# EAGLE library part HY57V641620HG (library axis)
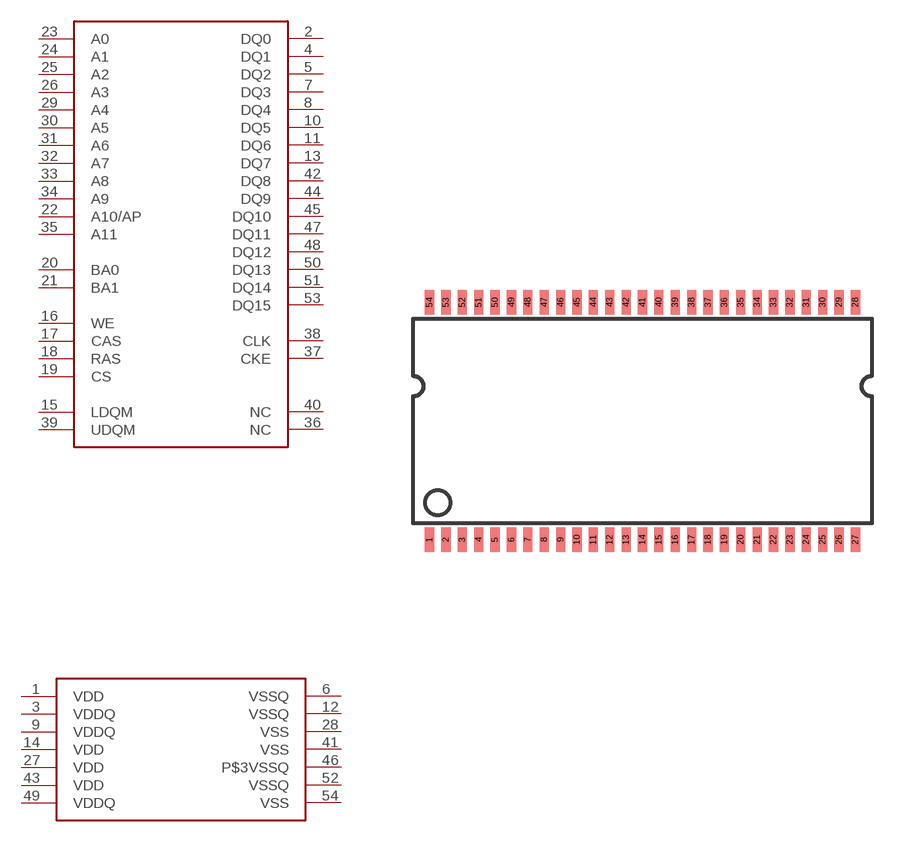
[diagram p3: symbol with the pads of TSOP54; footprint TSOP54]

Designator prefix -; gates G$1=HY57V641620HG G$2=HY57V641620HG_PWR

## HY57V641620HG  [TSOP54]
1  G$2:VDD
2  G$1:DQ0
3  G$2:VDDQ
4  G$1:DQ1
5  G$1:DQ2
6  G$2:VSSQ
7  G$1:DQ3
8  G$1:DQ4
9  G$2:VDDQ
10  G$1:DQ5
11  G$1:DQ6
12  G$2:VSSQ
13  G$1:DQ7
14  G$2:VDD
15  G$1:LDQM
16  G$1:WE
17  G$1:CAS
18  G$1:RAS
19  G$1:CS
20  G$1:BA0
21  G$1:BA1
22  G$1:A10/AP
23  G$1:A0
24  G$1:A1
25  G$1:A2
26  G$1:A3
27  G$2:VDD
28  G$2:VSS
29  G$1:A4
30  G$1:A5
31  G$1:A6
32  G$1:A7
33  G$1:A8
34  G$1:A9
35  G$1:A11
36  G$1:NC
37  G$1:CKE
38  G$1:CLK
39  G$1:UDQM
40  G$1:NC
41  G$2:VSS
42  G$1:DQ8
43  G$2:VDD
44  G$1:DQ9
45  G$1:DQ10
46  G$2:P$3VSSQ
47  G$1:DQ11
48  G$1:DQ12
49  G$2:VDDQ
50  G$1:DQ13
51  G$1:DQ14
52  G$2:VSSQ
53  G$1:DQ15
54  G$2:VSS

## Footprint TSOP54 (pad centres in mm)
smd 0.45 x 1.2: 1 -11.67,-4.53; 2 -10.87,-4.53; 3 -10.07,-4.53; 4 -9.27,-4.53; 5 -8.47,-4.53; 6 -7.67,-4.53; 7 -6.87,-4.53; 8 -6.07,-4.53; 9 -5.27,-4.53; 10 -4.47,-4.53; 11 -3.67,-4.53; 12 -2.87,-4.53; 13 -2.07,-4.53; 14 -1.27,-4.53; 15 -0.47,-4.53; 16 0.33,-4.53; 17 1.13,-4.53; 18 1.93,-4.53; 19 2.73,-4.53; 20 3.53,-4.53; 21 4.33,-4.53; 22 5.13,-4.53; 23 5.93,-4.53; 24 6.73,-4.53; 25 7.53,-4.53; 26 8.33,-4.53; 27 9.13,-4.53; 28 9.13,7.07; 29 8.33,7.07; 30 7.53,7.07; 31 6.73,7.07; 32 5.93,7.07; 33 5.13,7.07; 34 4.33,7.07; 35 3.53,7.07; 36 2.73,7.07; 37 1.93,7.07; 38 1.13,7.07; 39 0.33,7.07; 40 -0.47,7.07; 41 -1.27,7.07; 42 -2.07,7.07; 43 -2.87,7.07; 44 -3.67,7.07; 45 -4.47,7.07; 46 -5.27,7.07; 47 -6.07,7.07; 48 -6.87,7.07; 49 -7.67,7.07; 50 -8.47,7.07; 51 -9.27,7.07; 52 -10.07,7.07; 53 -10.87,7.07; 54 -11.67,7.07